# Altium footprint library HDR5.00-X7.PcbLib: 1 footprints
Each footprint in its own frame and in the unit in brackets; x right, y up, seen from the top. Pads: shape width x height; smd on the part's side, far side on the other; paste and mask are expansions set on the pad; w line width, h text height; cw(c..) or ccw(c..) is an arc to the next point about the centre after c.
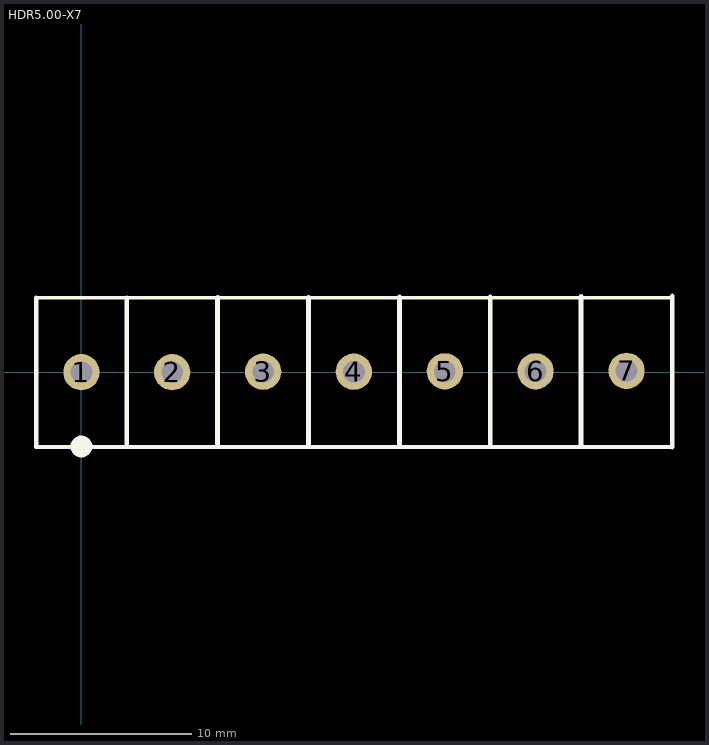
[diagram p0: the footprint, top view; thin cyan lines are the x and y axes]

## HDR5.00-X7 [mm] "Terminal Blocks - Wire to Board HDR 5.0 Pitch,X7"
height 10
pads (7):
  round 2 hole 1.2: 1(0,0) 2(5,0) 3(10.015,0.025) 4(15.015,0.025) 5(20.029,0.051) 6(25.029,0.051) 7(30.044,0.076)
Top Overlay:
  circle w0.6: c0,-4.1 r0.3
  lines w0.2: -2.515,-4.125 32.558,-4.125 ; -2.5,4.1 32.457,4.1
  lines w0.254: -2.5,-4.1 -2.5,4.1 ; 2.5,-4.1 2.5,4.1 ; 7.5,-4.1 7.5,4.1 ; 7.515,-4.075 7.515,4.125 ; 12.515,-4.075 12.515,4.125 ; 17.515,-4.075 17.515,4.125 ; 17.529,-4.049 17.529,4.151 ; 22.529,-4.049 22.529,4.151 ; 27.529,-4.049 27.529,4.151 ; 27.544,-4.024 27.544,4.176 ; 32.558,-4.125 32.558,4.202
3D body: height 10, standoff -3.5, extent 22.515,-4.075 33.115,4.125
3D body: height 10, standoff -3.5, extent 17.515,-4.075 28.115,4.125
3D body: height 10, standoff -3.5, extent 7.5,-4.1 18.1,4.1
3D body: height 10, standoff -3.5, extent -2.515,-4.125 8.085,4.075